# EAGLE library part HM10_BLE (library pecs)
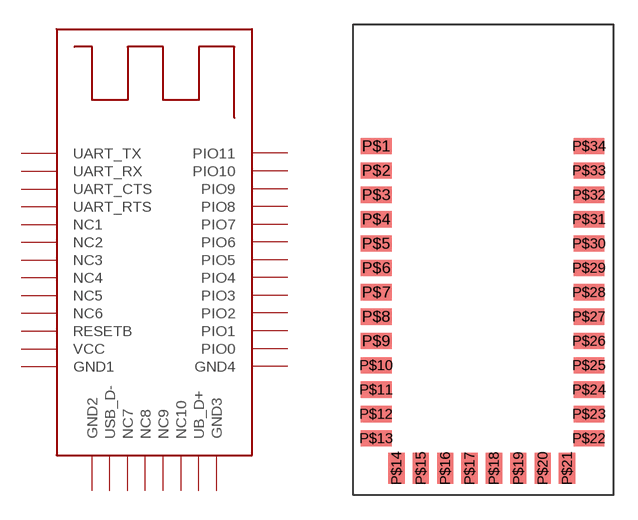
[diagram p0: symbol with the pads of HM10; footprint HM10]

Designator prefix BLE

## HM10_BLE  [HM10]
P$1  UART_TX
P$2  UART_RX
P$3  UART_CTS
P$4  UART_RTS
P$5  NC1  nc
P$6  NC2  nc
P$7  NC3  nc
P$8  NC4  nc
P$9  NC5  nc
P$10  NC6  nc
P$11  RESETB  in
P$12  VCC  pwr
P$13  GND1  pwr
P$14  GND2  pwr
P$15  USB_D-
P$16  NC7  nc
P$17  NC8  nc
P$18  NC9  nc
P$19  NC10  nc
P$20  UB_D+
P$21  GND3  pwr
P$22  GND4  pwr
P$23  PIO0
P$24  PIO1
P$25  PIO2
P$26  PIO3
P$27  PIO4
P$28  PIO5
P$29  PIO6
P$30  PIO7
P$31  PIO8
P$32  PIO9
P$33  PIO10
P$34  PIO11

## Footprint HM10 (pad centres in mm)
smd 1.9 x 1: P$1 -13.1,18; P$2 -13.1,16.5; P$3 -13.1,15; P$4 -13.1,13.5; P$5 -13.1,12; P$6 -13.1,10.5; P$7 -13.1,9; P$8 -13.1,7.5; P$9 -13.1,6; P$10 -13.1,4.5; P$11 -13.1,3; P$12 -13.1,1.5; P$13 -13.1,0; P$22 0,0; P$23 0,1.5; P$24 0,3; P$25 0,4.5; P$26 0,6; P$27 0,7.5; P$28 0,9; P$29 0,10.5; P$30 0,12; P$31 0,13.5; P$32 0,15; P$33 0,16.5; P$34 0,18
smd 1 x 1.9: P$14 -11.85,-1.84; P$15 -10.35,-1.84; P$16 -8.85,-1.84; P$17 -7.35,-1.84; P$18 -5.85,-1.84; P$19 -4.35,-1.84; P$20 -2.85,-1.84; P$21 -1.35,-1.84